# EAGLE library part UCC27211 (library ruark2)
Half-Bridge Gate Driver IC Non-Inverting 8-SO PowerPad
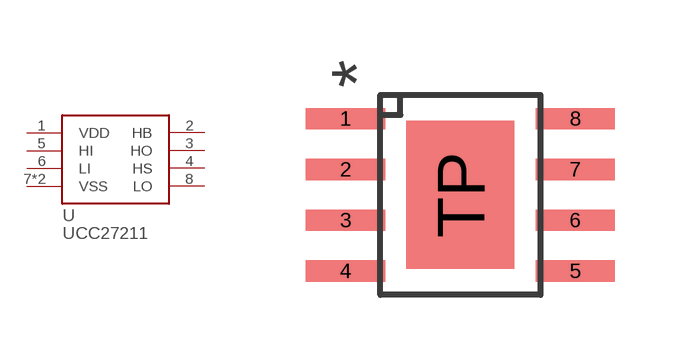
[diagram p176: symbol with the pads of SOIC8_TP; footprint SOIC8_TP]

Designator prefix U

## UCC27211 (PARTNO: 296-30344-1-ND)  [SOIC8_TP]
1  VDD
2  HB
3  HO
4  HS
5  HI
6  LI
7  VSS
8  LO
TP  VSS

## Footprint SOIC8_TP (pad centres in mm)
smd 1.981 x 0.533: 1 -2.87,1.905; 2 -2.87,0.635; 3 -2.87,-0.635; 4 -2.87,-1.905; 5 2.87,-1.905; 6 2.87,-0.635; 7 2.87,0.635; 8 2.87,1.905
smd 2.7 x 3.7: TP 0,0